# EAGLE library part LE910_V2 (library Modules)
Cellular module
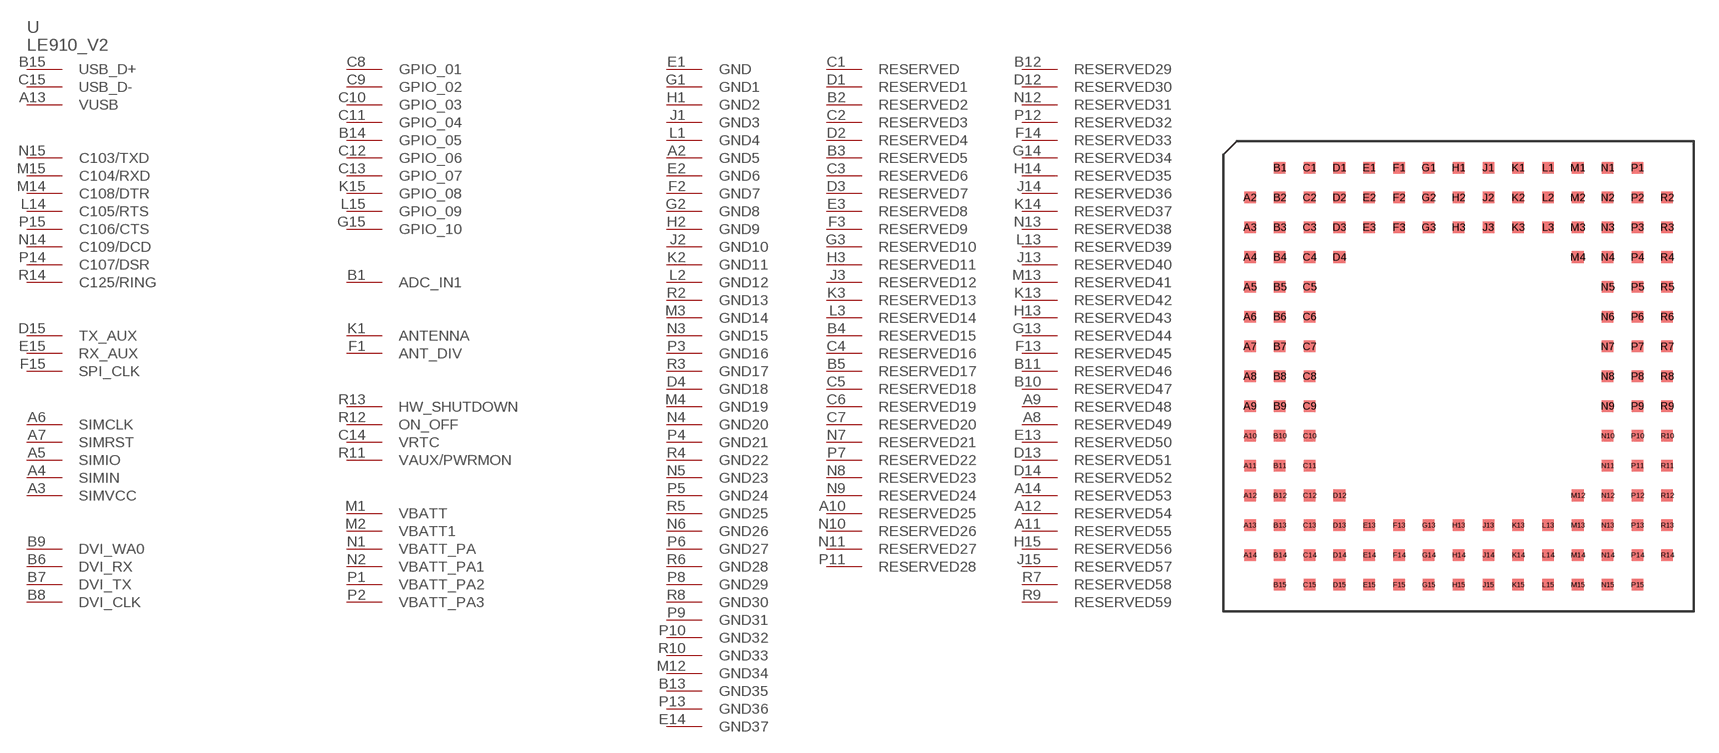
[diagram p0: symbol with the pads of LE910_V2; footprint LE910_V2]

Designator prefix U

## LE910_V2  [LE910_V2]
A2  GND5  pas
A3  SIMVCC  pas
A4  SIMIN
A5  SIMIO
A6  SIMCLK
A7  SIMRST
A8  RESERVED49  nc
A9  RESERVED48  nc
A10  RESERVED25  nc
A11  RESERVED55  nc
A12  RESERVED54  nc
A13  VUSB
A14  RESERVED53  nc
B1  ADC_IN1
B2  RESERVED2  nc
B3  RESERVED5  nc
B4  RESERVED15  nc
B5  RESERVED17  nc
B6  DVI_RX
B7  DVI_TX
B8  DVI_CLK
B9  DVI_WA0
B10  RESERVED47  nc
B11  RESERVED46  nc
B12  RESERVED29  nc
B13  GND35  pas
B14  GPIO_05
B15  USB_D+
C1  RESERVED  nc
C2  RESERVED3  nc
C3  RESERVED6  nc
C4  RESERVED16  nc
C5  RESERVED18  nc
C6  RESERVED19  nc
C7  RESERVED20  nc
C8  GPIO_01
C9  GPIO_02
C10  GPIO_03
C11  GPIO_04
C12  GPIO_06
C13  GPIO_07
C14  VRTC
C15  USB_D-
D1  RESERVED1  nc
D2  RESERVED4  nc
D3  RESERVED7  nc
D4  GND18  pas
D12  RESERVED30  nc
D13  RESERVED51  nc
D14  RESERVED52  nc
D15  TX_AUX
E1  GND  pas
E2  GND6  pas
E3  RESERVED8  nc
E13  RESERVED50  nc
E14  GND37  pas
E15  RX_AUX
F1  ANT_DIV
F2  GND7  pas
F3  RESERVED9  nc
F13  RESERVED45  nc
F14  RESERVED33  nc
F15  SPI_CLK
G1  GND1  pas
G2  GND8  pas
G3  RESERVED10  nc
G13  RESERVED44  nc
G14  RESERVED34  nc
G15  GPIO_10
H1  GND2  pas
H2  GND9  pas
H3  RESERVED11  nc
H13  RESERVED43  nc
H14  RESERVED35  nc
H15  RESERVED56  nc
J1  GND3  pas
J2  GND10  pas
J3  RESERVED12  nc
J13  RESERVED40  nc
J14  RESERVED36  nc
J15  RESERVED57  nc
K1  ANTENNA
K2  GND11  pas
K3  RESERVED13  nc
K13  RESERVED42  nc
K14  RESERVED37  nc
K15  GPIO_08
L1  GND4  pas
L2  GND12  pas
L3  RESERVED14  nc
L13  RESERVED39  nc
L14  C105/RTS
L15  GPIO_09
M1  VBATT  pas
M2  VBATT1  pas
M3  GND14  pas
M4  GND19  pas
M12  GND34  pas
M13  RESERVED41  nc
M14  C108/DTR
M15  C104/RXD
N1  VBATT_PA  pas
N2  VBATT_PA1  pas
N3  GND15  pas
N4  GND20  pas
N5  GND23  pas
N6  GND26  pas
N7  RESERVED21  nc
N8  RESERVED23  nc
N9  RESERVED24  nc
N10  RESERVED26  nc
N11  RESERVED27  nc
N12  RESERVED31  nc
N13  RESERVED38  nc
N14  C109/DCD
N15  C103/TXD
P1  VBATT_PA2  pas
P2  VBATT_PA3  pas
P3  GND16  pas
P4  GND21  pas
P5  GND24  pas
P6  GND27  pas
P7  RESERVED22  nc
P8  GND29  pas
P9  GND31  pas
P10  GND32  pas
P11  RESERVED28  nc
P12  RESERVED32  nc
P13  GND36  pas
P14  C107/DSR
P15  C106/CTS
R2  GND13  pas
R3  GND17  pas
R4  GND22  pas
R5  GND25  pas
R6  GND28  pas
R7  RESERVED58  nc
R8  GND30  pas
R9  RESERVED59  nc
R10  GND33  pas
R11  VAUX/PWRMON
R12  ON_OFF
R13  HW_SHUTDOWN
R14  C125/RING

## Footprint LE910_V2 (pad centres in mm)
LE910 V2
smd 0.7 x 0.7: A2 -12.6,10.8; A3 -12.6,9; A4 -12.6,7.2; A5 -12.6,5.4; A6 -12.6,3.6; A7 -12.6,1.8; A8 -12.6,0; A9 -12.6,-1.8; A10 -12.6,-3.6; A11 -12.6,-5.4; A12 -12.6,-7.2; A13 -12.6,-9; A14 -12.6,-10.8; B1 -10.8,12.6; B2 -10.8,10.8; B3 -10.8,9; B4 -10.8,7.2; B5 -10.8,5.4; B6 -10.8,3.6; B7 -10.8,1.8; B8 -10.8,0; B9 -10.8,-1.8; B10 -10.8,-3.6; B11 -10.8,-5.4; B12 -10.8,-7.2; B13 -10.8,-9; B14 -10.8,-10.8; B15 -10.8,-12.6; C1 -9,12.6; C2 -9,10.8; C3 -9,9; C4 -9,7.2; C5 -9,5.4; C6 -9,3.6; C7 -9,1.8; C8 -9,0; C9 -9,-1.8; C10 -9,-3.6; C11 -9,-5.4; C12 -9,-7.2; C13 -9,-9; C14 -9,-10.8; C15 -9,-12.6; D1 -7.2,12.6; D2 -7.2,10.8; D3 -7.2,9; D4 -7.2,7.2; D12 -7.2,-7.2; D13 -7.2,-9; D14 -7.2,-10.8; D15 -7.2,-12.6; E1 -5.4,12.6; E2 -5.4,10.8; E3 -5.4,9; E13 -5.4,-9; E14 -5.4,-10.8; E15 -5.4,-12.6; F1 -3.6,12.6; F2 -3.6,10.8; F3 -3.6,9; F13 -3.6,-9; F14 -3.6,-10.8; F15 -3.6,-12.6; G1 -1.8,12.6; G2 -1.8,10.8; G3 -1.8,9; G13 -1.8,-9; G14 -1.8,-10.8; G15 -1.8,-12.6; H1 0,12.6; H2 0,10.8; H3 0,9; H13 0,-9; H14 0,-10.8; H15 0,-12.6; J1 1.8,12.6; J2 1.8,10.8; J3 1.8,9; J13 1.8,-9; J14 1.8,-10.8; J15 1.8,-12.6; K1 3.6,12.6; K2 3.6,10.8; K3 3.6,9; K13 3.6,-9; K14 3.6,-10.8; K15 3.6,-12.6; L1 5.4,12.6; L2 5.4,10.8; L3 5.4,9; L13 5.4,-9; L14 5.4,-10.8; L15 5.4,-12.6; M1 7.2,12.6; M2 7.2,10.8; M3 7.2,9; M4 7.2,7.2; M12 7.2,-7.2; M13 7.2,-9; M14 7.2,-10.8; M15 7.2,-12.6; N1 9,12.6; N2 9,10.8; N3 9,9; N4 9,7.2; N5 9,5.4; N6 9,3.6; N7 9,1.8; N8 9,0; N9 9,-1.8; N10 9,-3.6; N11 9,-5.4; N12 9,-7.2; N13 9,-9; N14 9,-10.8; N15 9,-12.6; P1 10.8,12.6; P2 10.8,10.8; P3 10.8,9; P4 10.8,7.2; P5 10.8,5.4; P6 10.8,3.6; P7 10.8,1.8; P8 10.8,0; P9 10.8,-1.8; P10 10.8,-3.6; P11 10.8,-5.4; P12 10.8,-7.2; P13 10.8,-9; P14 10.8,-10.8; P15 10.8,-12.6; R2 12.6,10.8; R3 12.6,9; R4 12.6,7.2; R5 12.6,5.4; R6 12.6,3.6; R7 12.6,1.8; R8 12.6,0; R9 12.6,-1.8; R10 12.6,-3.6; R11 12.6,-5.4; R12 12.6,-7.2; R13 12.6,-9; R14 12.6,-10.8